# Altium footprint library LTM8025IY#PBF.PcbLib: 1 footprints
Each footprint in its own frame and in the unit in brackets; x right, y up, seen from the top. Pads: shape width x height; smd on the part's side, far side on the other; paste and mask are expansions set on the pad; w line width, h text height; cw(c..) or ccw(c..) is an arc to the next point about the centre after c.
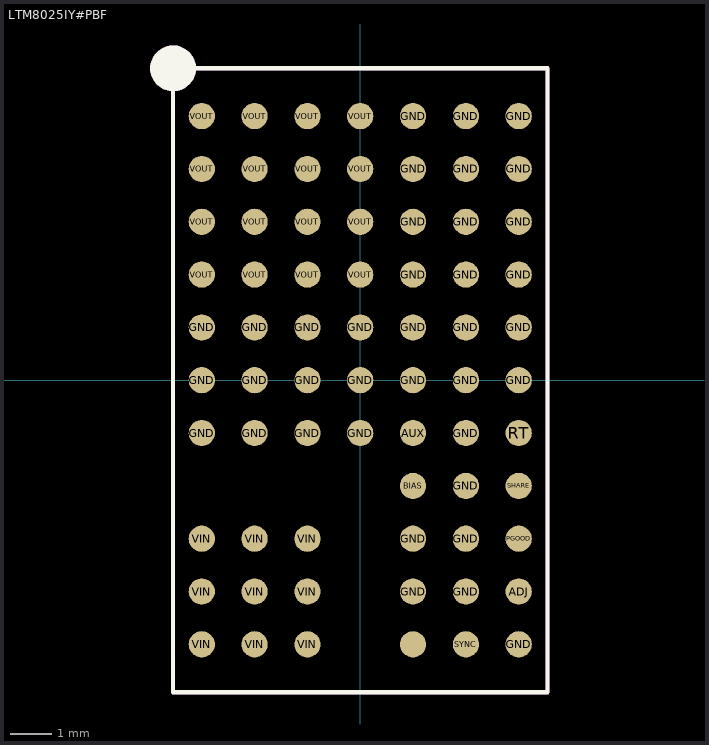
[diagram p0: the footprint, top view; thin cyan lines are the x and y axes]

## LTM8025IY#PBF [mm]
height 0.9
pads (70):
  rrect100% 0.63x0.63 smd: ADJ(3.81,-5.08) AUX(1.27,-1.27) BIAS(1.27,-2.54) GND(-3.81,-1.27) GND(-3.81,0) GND(-3.81,1.27) GND(-2.54,-1.27) GND(-2.54,0) GND(-2.54,1.27) GND(-1.27,-1.27) GND(-1.27,0) GND(-1.27,1.27) GND(0,-1.27) GND(0,0) GND(0,1.27) GND(1.27,-5.08) GND(1.27,-3.81) GND(1.27,0) GND(1.27,1.27) GND(1.27,2.54) GND(1.27,3.81) GND(1.27,5.08) GND(1.27,6.35) GND(2.54,-5.08) GND(2.54,-3.81) GND(2.54,-2.54) GND(2.54,-1.27) GND(2.54,0) GND(2.54,1.27) GND(2.54,2.54) GND(2.54,3.81) GND(2.54,5.08) GND(2.54,6.35) GND(3.81,-6.35) GND(3.81,0) GND(3.81,1.27) GND(3.81,2.54) GND(3.81,3.81) GND(3.81,5.08) GND(3.81,6.35) PGOOD(3.81,-3.81) RT(3.81,-1.27) RUN/SS(1.27,-6.35) SHARE(3.81,-2.54) SYNC(2.54,-6.35) VIN(-3.81,-6.35) VIN(-3.81,-5.08) VIN(-3.81,-3.81) VIN(-2.54,-6.35) VIN(-2.54,-5.08) VIN(-2.54,-3.81) VIN(-1.27,-6.35) VIN(-1.27,-5.08) VIN(-1.27,-3.81) VOUT(-3.81,2.54) VOUT(-3.81,3.81) VOUT(-3.81,5.08) VOUT(-3.81,6.35) VOUT(-2.54,2.54) VOUT(-2.54,3.81) VOUT(-2.54,5.08) VOUT(-2.54,6.35) VOUT(-1.27,2.54) VOUT(-1.27,3.81) VOUT(-1.27,5.08) VOUT(-1.27,6.35) VOUT(0,2.54) VOUT(0,3.81) VOUT(0,5.08) VOUT(0,6.35)
Top Overlay:
  circle w0.5: c-4.5,7.5 r0.3
  lines w0.1: -4.5,-7.5 4.5,-7.5 4.5,7.5 -4.5,7.5 -4.5,-7.5
Top Assembly:
  circle w0.5: c-4.5,7.5 r0.3
  lines w0.1: -4.5,-7.5 4.5,-7.5 4.5,7.5 -4.5,7.5 -4.5,-7.5
  text "'.Designator'" at 0,0 h0.7